# Altium schematic symbol library LMR50410XFDBVR.SchLib: 1 symbol
Pins are listed as number, name and electrical type; pins without a type are passive.

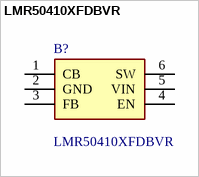
[diagram p0: symbol LMR50410XFDBVR]

## LMR50410XFDBVR
designator B?
Simple Switcher 4-V To 36-V, 1-A Buck Converter In SOT-23-6 Package; Manufacturer_Name: Texas Instruments; Geometry.Height: 1.45mm; Mouser Part Number: 595-LMR50410XFDBVR; Mouser Price/Stock: https://www.mouser.co.uk/ProductDetail/Texas-Instruments/LMR50410XFDBVR?qs=81r%252BiQLm7BS8rTEbBMRIqw%3D%3D; Manufacturer_Part_Number: LMR50410XFDBVR; Datasheet Link: https://www.ti.com/lit/ds/symlink/lmr50410.pdf?ts=1614072497398&ref_url=https%253A%252F%252Fwww.mouser.de%252F
footprint SOT95P280X145-6N
pins: 1 CB, 2 GND, 3 FB, 4 EN, 5 VIN, 6 SW